# Altium footprint library IC.PcbLib: 4 footprints
Each footprint in its own frame and in the unit in brackets; x right, y up, seen from the top. Pads: shape width x height; smd on the part's side, far side on the other; paste and mask are expansions set on the pad; w line width, h text height; cw(c..) or ccw(c..) is an arc to the next point about the centre after c.
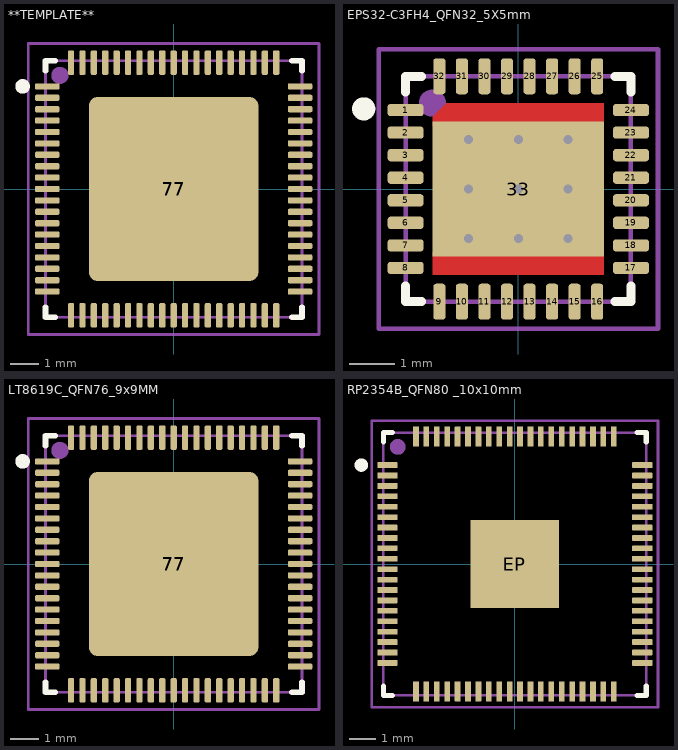
[diagram p0: the footprints below, top view; thin cyan lines are the x and y axes]

## **TEMPLATE** [mm] "PLEASE COPY TO CREATE NEW COMPONENT"
pads (78):
  rrect50% 0.86x0.22 smd mask+0.038: 1(-4.435,3.6) 2(-4.435,3.2) 3(-4.435,2.8) 4(-4.435,2.4) 5(-4.435,2) 6(-4.435,1.6) 7(-4.435,1.2) 8(-4.435,0.8) 9(-4.435,0.4) 10(-4.435,0) 11(-4.435,-0.4) 12(-4.435,-0.8) 13(-4.435,-1.2) 14(-4.435,-1.6) 15(-4.435,-2) 16(-4.435,-2.4) 17(-4.435,-2.8) 18(-4.435,-3.2) 19(-4.435,-3.6) 39(4.435,-3.6) 40(4.435,-3.2) 41(4.435,-2.8) 42(4.435,-2.4) 43(4.435,-2) 44(4.435,-1.6) 45(4.435,-1.2) 46(4.435,-0.8) 47(4.435,-0.4) 48(4.435,0) 49(4.435,0.4) 50(4.435,0.8) 51(4.435,1.2) 52(4.435,1.6) 53(4.435,2) 54(4.435,2.4) 55(4.435,2.8) 56(4.435,3.2) 57(4.435,3.6)
  rrect50% 0.22x0.86 smd mask+0.038: 20(-3.6,-4.435) 21(-3.2,-4.435) 22(-2.8,-4.435) 23(-2.4,-4.435) 24(-2,-4.435) 25(-1.6,-4.435) 26(-1.2,-4.435) 27(-0.8,-4.435) 28(-0.4,-4.435) 29(0,-4.435) 30(0.4,-4.435) 31(0.8,-4.435) 32(1.2,-4.435) 33(1.6,-4.435) 34(2,-4.435) 35(2.4,-4.435) 36(2.8,-4.435) 37(3.2,-4.435) 38(3.6,-4.435) 58(3.6,4.435) 59(3.2,4.435) 60(2.8,4.435) 61(2.4,4.435) 62(2,4.435) 63(1.6,4.435) 64(1.2,4.435) 65(0.8,4.435) 66(0.4,4.435) 67(0,4.435) 68(-0.4,4.435) 69(-0.8,4.435) 70(-1.2,4.435) 71(-1.6,4.435) 72(-2,4.435) 73(-2.4,4.435) 74(-2.8,4.435) 75(-3.2,4.435) 76(-3.6,4.435)
  rrect10% 5.9x6.4 smd paste-4: 77(0,0)
  rrect10% 5.95x6.45 smd paste-4: 77(0,0)
Top Overlay:
  circle w0.26: c-5.3,3.6 r0.127
  lines w0.2: -4.5,-4.15 -4.5,-4.5 -4.15,-4.5 ; -4.5,4.15 -4.5,4.5 -4.15,4.5 ; 4.15,-4.5 4.5,-4.5 4.5,-4.15 ; 4.15,4.5 4.5,4.5 4.5,4.15
Top Paste:
  region: 2.615,-2.858 1.266,-2.858 1.266,-1.345 2.615,-1.345
  region: 0.675,-2.857 -0.675,-2.857 -0.675,-1.345 0.675,-1.345
  region: -1.265,-2.858 -2.618,-2.858 -2.618,-1.345 -1.265,-1.345
  region: 2.615,1.347 1.267,1.347 1.267,2.855 2.615,2.855
  region: 0.675,1.347 -0.676,1.347 -0.676,2.855 0.675,2.855
  region: -1.265,1.348 -2.62,1.348 -2.62,2.855 -1.265,2.855
  region: 2.615,-0.755 1.266,-0.755 1.266,0.755 2.615,0.755
  region: -1.265,-0.756 -2.619,-0.756 -2.619,0.755 -1.265,0.755
  region: 0.675,-0.756 -0.676,-0.756 -0.676,0.755 0.675,0.755
Top Component Center:
  lines w0.05: -0.35,0 0.35,0 ; 0,-0.35 0,0.35
Top Assembly:
  circle w0.4: c-3.992,3.987 r0.1
  lines w0.1: -4.5,-4.5 -4.5,4.5 4.5,4.5 4.5,-4.5 -4.5,-4.5
  text ".Designator" at -3.381,-0.339 h1.5
Top Component Outline:
  lines w0.1: -4.5,-4.5 4.5,-4.5 4.5,4.5 -4.5,4.5 -4.5,-4.5
Top Courtyard:
  lines w0.1: -5.1,-5.1 -5.1,5.1 5.1,5.1 5.1,-5.1 -5.1,-5.1
3D body "QFN-76-1EP_9x9mm_P0.4mm_EP3.8x3.8mm.step": height 0.87, standoff 0, extent -4.5,-4.5 4.5,4.5

## EPS32-C3FH4_QFN32_5X5mm [mm] "QFN32 (5×5 mm) package"
height 0.9
pads (33):
  rrect50% 0.8x0.27 smd mask+0.05: 1(-2.5,1.75) 2(-2.5,1.25) 3(-2.5,0.75) 4(-2.5,0.25) 5(-2.5,-0.25) 6(-2.5,-0.75) 7(-2.5,-1.25) 8(-2.5,-1.75) 17(2.5,-1.75) 18(2.5,-1.25) 19(2.5,-0.75) 20(2.5,-0.25) 21(2.5,0.25) 22(2.5,0.75) 23(2.5,1.25) 24(2.5,1.75)
  rrect50% 0.27x0.8 smd mask+0.05: 9(-1.75,-2.5) 10(-1.25,-2.5) 11(-0.75,-2.5) 12(-0.25,-2.5) 13(0.25,-2.5) 14(0.75,-2.5) 15(1.25,-2.5) 16(1.75,-2.5) 25(1.75,2.5) 26(1.25,2.5) 27(0.75,2.5) 28(0.25,2.5) 29(-0.25,2.5) 30(-0.75,2.5) 31(-1.25,2.5) 32(-1.75,2.5)
  rect 3.8x3 smd paste-2539.97 mask+0.038: 33(0,0)
via 1.1,-1.1 diameter 0.5 hole 0.2
via 0,-1.1 diameter 0.5 hole 0.2
via -1.1,-1.1 diameter 0.5 hole 0.2
via 1.1,0 diameter 0.5 hole 0.2
via 0,0 diameter 0.5 hole 0.2
via -1.1,0 diameter 0.5 hole 0.2
via 1.1,1.1 diameter 0.5 hole 0.2
via 0,1.1 diameter 0.5 hole 0.2
via -1.1,1.1 diameter 0.5 hole 0.2
Top Layer:
  region: -1.9,1.6 -1.6,1.9 1.9,1.9 1.9,1.4 -1.9,1.4
  region: -1.9,-1.4 -1.9,-1.9 1.9,-1.9 1.9,-1.4
Top Overlay:
  circle w0.26: c-3.429,1.778 r0.127
  lines w0.2: -2.5,-2.15 -2.5,-2.5 -2.15,-2.5 ; -2.5,2.15 -2.5,2.5 -2.15,2.5 ; 2.15,-2.5 2.5,-2.5 2.5,-2.15 ; 2.15,2.5 2.5,2.5 2.5,2.15
Top Paste:
  region: -1.778,1.651 -1.778,0.127 -0.127,0.127 -0.127,1.778 -1.651,1.778
  region: 1.778,-0.127 0.127,-0.127 0.127,-1.778 1.778,-1.778
  region: -1.785,-0.126 -0.134,-0.126 -0.134,-1.777 -1.785,-1.777
  region: 1.778,0.127 0.127,0.127 0.127,1.778 1.778,1.778
Top Component Center:
  lines w0.05: -0.35,0 0.35,0 ; 0,-0.35 0,0.35
Top Assembly:
  circle w0.4: c-1.905,1.905 r0.1
  lines w0.1: -2.5,2.5 2.5,2.5 ; -2.5,2.5 -2.5,-2.5 2.5,-2.5 2.5,2.5
  text ".Designator" at -3.381,-0.339 h1.5
Top Component Outline:
  lines w0.1: -2.5,-2.5 -2.5,-2.5 -2.5,2.5 2.5,2.5 2.5,-2.5 -2.5,-2.5
Top Courtyard:
  lines w0.1: -3.1,-3.1 -3.1,3.1 3.1,3.1 3.1,-3.1 -3.1,-3.1
3D body "ESP32-C3FH4--3DModel-STEP-56544.STEP": height 0.9, standoff 0, extent -2.5,-2.5 2.5,2.5

## LT8619C_QFN76_9x9MM [mm] "HDMI to LVDS,TTL converter"
height 0.9
pads (78):
  rrect50% 0.86x0.22 smd mask+0.038: 1(-4.435,3.6) 2(-4.435,3.2) 3(-4.435,2.8) 4(-4.435,2.4) 5(-4.435,2) 6(-4.435,1.6) 7(-4.435,1.2) 8(-4.435,0.8) 9(-4.435,0.4) 10(-4.435,0) 11(-4.435,-0.4) 12(-4.435,-0.8) 13(-4.435,-1.2) 14(-4.435,-1.6) 15(-4.435,-2) 16(-4.435,-2.4) 17(-4.435,-2.8) 18(-4.435,-3.2) 19(-4.435,-3.6) 39(4.435,-3.6) 40(4.435,-3.2) 41(4.435,-2.8) 42(4.435,-2.4) 43(4.435,-2) 44(4.435,-1.6) 45(4.435,-1.2) 46(4.435,-0.8) 47(4.435,-0.4) 48(4.435,0) 49(4.435,0.4) 50(4.435,0.8) 51(4.435,1.2) 52(4.435,1.6) 53(4.435,2) 54(4.435,2.4) 55(4.435,2.8) 56(4.435,3.2) 57(4.435,3.6)
  rrect50% 0.22x0.86 smd mask+0.038: 20(-3.6,-4.435) 21(-3.2,-4.435) 22(-2.8,-4.435) 23(-2.4,-4.435) 24(-2,-4.435) 25(-1.6,-4.435) 26(-1.2,-4.435) 27(-0.8,-4.435) 28(-0.4,-4.435) 29(0,-4.435) 30(0.4,-4.435) 31(0.8,-4.435) 32(1.2,-4.435) 33(1.6,-4.435) 34(2,-4.435) 35(2.4,-4.435) 36(2.8,-4.435) 37(3.2,-4.435) 38(3.6,-4.435) 58(3.6,4.435) 59(3.2,4.435) 60(2.8,4.435) 61(2.4,4.435) 62(2,4.435) 63(1.6,4.435) 64(1.2,4.435) 65(0.8,4.435) 66(0.4,4.435) 67(0,4.435) 68(-0.4,4.435) 69(-0.8,4.435) 70(-1.2,4.435) 71(-1.6,4.435) 72(-2,4.435) 73(-2.4,4.435) 74(-2.8,4.435) 75(-3.2,4.435) 76(-3.6,4.435)
  rrect10% 5.9x6.4 smd paste-4: 77(0,0)
  rrect10% 5.95x6.45 smd paste-4: 77(0,0)
Top Overlay:
  circle w0.26: c-5.3,3.6 r0.127
  lines w0.2: -4.5,-4.15 -4.5,-4.5 -4.15,-4.5 ; -4.5,4.15 -4.5,4.5 -4.15,4.5 ; 4.15,-4.5 4.5,-4.5 4.5,-4.15 ; 4.15,4.5 4.5,4.5 4.5,4.15
Top Paste:
  region: 0.675,-0.756 -0.676,-0.756 -0.676,0.755 0.675,0.755
  region: -1.265,-0.756 -2.619,-0.756 -2.619,0.755 -1.265,0.755
  region: 2.615,-0.755 1.266,-0.755 1.266,0.755 2.615,0.755
  region: -1.265,1.348 -2.62,1.348 -2.62,2.855 -1.265,2.855
  region: 0.675,1.347 -0.676,1.347 -0.676,2.855 0.675,2.855
  region: 2.615,1.347 1.267,1.347 1.267,2.855 2.615,2.855
  region: -1.265,-2.858 -2.618,-2.858 -2.618,-1.345 -1.265,-1.345
  region: 0.675,-2.857 -0.675,-2.857 -0.675,-1.345 0.675,-1.345
  region: 2.615,-2.858 1.266,-2.858 1.266,-1.345 2.615,-1.345
Top Component Center:
  lines w0.05: -0.35,0 0.35,0 ; 0,-0.35 0,0.35
Top Assembly:
  circle w0.4: c-3.992,3.987 r0.1
  lines w0.1: -4.5,-4.5 4.5,-4.5 4.5,4.5 -4.5,4.5 -4.5,-4.5
  text ".Designator" at -3.381,-0.339 h1.5
Top Component Outline:
  lines w0.1: -4.5,-4.5 -4.5,4.5 4.5,4.5 4.5,-4.5 -4.5,-4.5
Top Courtyard:
  lines w0.1: -5.1,-5.1 5.1,-5.1 5.1,5.1 -5.1,5.1 -5.1,-5.1
3D body "QFN-76-1EP_9x9mm_P0.4mm_EP3.8x3.8mm.step": height 0.87, standoff 0, extent -4.5,-4.5 4.5,4.5

## RP2354B_QFN80 _10x10mm [mm] "Microcontroller"
pads (81):
  rrect20% 0.78x0.22 smd paste+0 mask+0.038: 1(-4.897,3.8) 2(-4.897,3.4) 3(-4.897,3) 4(-4.897,2.6) 5(-4.897,2.2) 6(-4.897,1.8) 7(-4.897,1.4) 8(-4.897,1) 9(-4.897,0.6) 10(-4.897,0.2) 11(-4.897,-0.2) 12(-4.897,-0.6) 13(-4.897,-1) 14(-4.897,-1.4) 15(-4.897,-1.8) 16(-4.897,-2.2) 17(-4.897,-2.6) 18(-4.897,-3) 19(-4.897,-3.4) 20(-4.897,-3.8) 41(4.897,-3.8) 42(4.897,-3.4) 43(4.897,-3) 44(4.897,-2.6) 45(4.897,-2.2) 46(4.897,-1.8) 47(4.897,-1.4) 48(4.897,-1) 49(4.897,-0.6) 50(4.897,-0.2) 51(4.897,0.2) 52(4.897,0.6) 53(4.897,1) 54(4.897,1.4) 55(4.897,1.8) 56(4.897,2.2) 57(4.897,2.6) 58(4.897,3) 59(4.897,3.4) 60(4.897,3.8)
  rrect20% 0.22x0.78 smd paste+0 mask+0.038: 21(-3.8,-4.897) 22(-3.4,-4.897) 23(-3,-4.897) 24(-2.6,-4.897) 25(-2.2,-4.897) 26(-1.8,-4.897) 27(-1.4,-4.897) 28(-1,-4.897) 29(-0.6,-4.897) 30(-0.2,-4.897) 31(0.2,-4.897) 32(0.6,-4.897) 33(1,-4.897) 34(1.4,-4.897) 35(1.8,-4.897) 36(2.2,-4.897) 37(2.6,-4.897) 38(3,-4.897) 39(3.4,-4.897) 40(3.8,-4.897) 61(3.8,4.897) 62(3.4,4.897) 63(3,4.897) 64(2.6,4.897) 65(2.2,4.897) 66(1.8,4.897) 67(1.4,4.897) 68(1,4.897) 69(0.6,4.897) 70(0.2,4.897) 71(-0.2,4.897) 72(-0.6,4.897) 73(-1,4.897) 74(-1.4,4.897) 75(-1.8,4.897) 76(-2.2,4.897) 77(-2.6,4.897) 78(-3,4.897) 79(-3.4,4.897) 80(-3.8,4.897)
  rect 3.4x3.4 smd paste-2539.97 mask+0.05: EP(0,0)
Top Overlay:
  circle w0.26: c-5.9,3.8 r0.127
  lines w0.2: -5.05,-4.7 -5.05,-5.05 -4.7,-5.05 ; -5.05,4.7 -5.05,5.05 -4.7,5.05 ; 4.7,-5.05 5.05,-5.05 5.05,-4.7 ; 4.7,5.05 5.05,5.05 5.05,4.7
Top Paste:
  region: -0.2,1.5 -0.2,0.146 -1.556,0.146 -1.556,1.5
  region: 1.556,1.5 1.556,0.146 0.2,0.146 0.2,1.5
  region: -0.2,-0.2 -0.2,-1.554 -1.556,-1.554 -1.556,-0.2
  region: 1.556,-0.2 1.556,-1.554 0.2,-1.554 0.2,-0.2
Top Component Center:
  lines w0.05: -0.35,0 0.35,0 ; 0,-0.35 0,0.35
Top Assembly:
  circle w0.4: c-4.5,4.5 r0.1
  lines w0.1: -5.05,-5.05 -5.05,5.05 5.05,5.05 5.05,-5.05 -5.05,-5.05
  text ".Designator" at -0.339,3.381 h1.5
Top Component Outline:
  lines w0.1: -5.05,-5.05 5.05,-5.05 5.05,5.05 -5.05,5.05 -5.05,-5.05
Top Courtyard:
  lines w0.1: -5.5,-5.5 5.5,-5.5 5.5,5.5 -5.5,5.5 -5.5,-5.5
3D body "RP2354B.stp": height 0.96, standoff 0, extent -5.05,-5.05 5.05,5.05